# Altium footprint library AMPHENOL_10118194-0001LF.PcbLib: 1 footprints
Each footprint in its own frame and in the unit in brackets; x right, y up, seen from the top. Pads: shape width x height; smd on the part's side, far side on the other; paste and mask are expansions set on the pad; w line width, h text height; cw(c..) or ccw(c..) is an arc to the next point about the centre after c.
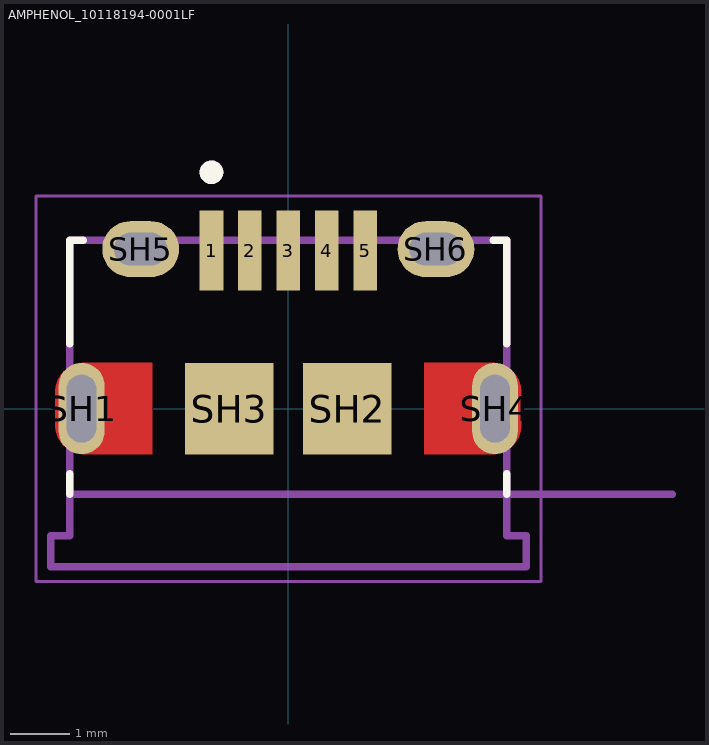
[diagram p0: the footprint, top view; thin cyan lines are the x and y axes]

## AMPHENOL_10118194-0001LF [mm]
height 2.66
pads (11):
  rect 0.4x1.35 smd: 1(-1.3,2.675) 2(-0.65,2.675) 3(0,2.675) 4(0.65,2.675) 5(1.3,2.675)
  oval 0.775x1.55 hole 0.5 slot 1.15 at 90 deg mask+0: SH1(-3.5,0) SH4(3.5,0)
  rect 1.5x1.55 smd: SH2(1,0) SH3(-1,0)
  oval 1.3x0.95 hole 0.55 slot 0.9 at 0 deg: SH5(-2.5,2.7) SH6(2.5,2.7)
Top Layer:
  region: 3.471,0.774 3.497,0.772 3.523,0.769 3.549,0.764 3.574,0.758 3.6,0.751 3.624,0.742 3.648,0.732 3.672,0.721 3.695,0.708 3.717,0.694 3.739,0.68 3.76,0.664 3.78,0.647 3.799,0.629 3.817,0.61 3.834,0.59 3.85,0.569 3.864,0.547 3.878,0.525 3.891,0.502 3.902,0.478 3.912,0.454 3.921,0.43 3.928,0.404 3.934,0.379 3.939,0.353 3.942,0.327 3.944,0.301 3.945,0.275 3.945,-0.275 3.944,-0.301 3.942,-0.327 3.939,-0.353 3.934,-0.379 3.928,-0.404 3.921,-0.43 3.912,-0.454 3.902,-0.478 3.891,-0.502 3.878,-0.525 3.864,-0.547 3.85,-0.569 3.834,-0.59 3.817,-0.61 3.799,-0.629 3.78,-0.647 3.76,-0.664 3.739,-0.68 3.717,-0.694 3.695,-0.708 3.672,-0.721 3.648,-0.732 3.624,-0.742 3.6,-0.751 3.574,-0.758 3.549,-0.764 3.523,-0.769 3.497,-0.772 3.471,-0.774 3.445,-0.775 2.3,-0.775 2.3,0.775 3.445,0.775
  region: -2.3,-0.775 -3.445,-0.775 -3.471,-0.774 -3.497,-0.772 -3.523,-0.769 -3.549,-0.764 -3.574,-0.758 -3.6,-0.751 -3.624,-0.742 -3.648,-0.732 -3.672,-0.721 -3.695,-0.708 -3.717,-0.694 -3.739,-0.68 -3.76,-0.664 -3.78,-0.647 -3.799,-0.629 -3.817,-0.61 -3.834,-0.59 -3.85,-0.569 -3.864,-0.547 -3.878,-0.525 -3.891,-0.502 -3.902,-0.478 -3.912,-0.454 -3.921,-0.43 -3.928,-0.404 -3.934,-0.379 -3.939,-0.353 -3.942,-0.327 -3.944,-0.301 -3.945,-0.275 -3.945,0.275 -3.944,0.301 -3.942,0.327 -3.939,0.353 -3.934,0.379 -3.928,0.404 -3.921,0.43 -3.912,0.454 -3.902,0.478 -3.891,0.502 -3.878,0.525 -3.864,0.547 -3.85,0.569 -3.834,0.59 -3.817,0.61 -3.799,0.629 -3.78,0.647 -3.76,0.664 -3.739,0.68 -3.717,0.694 -3.695,0.708 -3.672,0.721 -3.648,0.732 -3.624,0.742 -3.6,0.751 -3.574,0.758 -3.549,0.764 -3.523,0.769 -3.497,0.772 -3.471,0.774 -3.445,0.775 -2.3,0.775
Top Overlay:
  circle w0.2: c-1.3,4 r0.1
  lines w0.127: -3.7,-1.45 -3.7,-1.1 ; -3.7,1.1 -3.7,2.85 -3.47,2.85 ; 3.47,2.85 3.7,2.85 3.7,1.1 ; 3.7,-1.45 3.7,-1.1
Top Paste:
  region: 3.471,0.774 3.497,0.772 3.523,0.769 3.549,0.764 3.574,0.758 3.6,0.751 3.624,0.742 3.648,0.732 3.672,0.721 3.695,0.708 3.717,0.694 3.739,0.68 3.76,0.664 3.78,0.647 3.799,0.629 3.817,0.61 3.834,0.59 3.85,0.569 3.864,0.547 3.878,0.525 3.891,0.502 3.902,0.478 3.912,0.454 3.921,0.43 3.928,0.404 3.934,0.379 3.939,0.353 3.942,0.327 3.944,0.301 3.945,0.275 3.945,-0.275 3.944,-0.301 3.942,-0.327 3.939,-0.353 3.934,-0.379 3.928,-0.404 3.921,-0.43 3.912,-0.454 3.902,-0.478 3.891,-0.502 3.878,-0.525 3.864,-0.547 3.85,-0.569 3.834,-0.59 3.817,-0.61 3.799,-0.629 3.78,-0.647 3.76,-0.664 3.739,-0.68 3.717,-0.694 3.695,-0.708 3.672,-0.721 3.648,-0.732 3.624,-0.742 3.6,-0.751 3.574,-0.758 3.549,-0.764 3.523,-0.769 3.497,-0.772 3.471,-0.774 3.445,-0.775 2.3,-0.775 2.3,0.775 3.445,0.775
  region: -2.3,-0.775 -3.445,-0.775 -3.471,-0.774 -3.497,-0.772 -3.523,-0.769 -3.549,-0.764 -3.574,-0.758 -3.6,-0.751 -3.624,-0.742 -3.648,-0.732 -3.672,-0.721 -3.695,-0.708 -3.717,-0.694 -3.739,-0.68 -3.76,-0.664 -3.78,-0.647 -3.799,-0.629 -3.817,-0.61 -3.834,-0.59 -3.85,-0.569 -3.864,-0.547 -3.878,-0.525 -3.891,-0.502 -3.902,-0.478 -3.912,-0.454 -3.921,-0.43 -3.928,-0.404 -3.934,-0.379 -3.939,-0.353 -3.942,-0.327 -3.944,-0.301 -3.945,-0.275 -3.945,0.275 -3.944,0.301 -3.942,0.327 -3.939,0.353 -3.934,0.379 -3.928,0.404 -3.921,0.43 -3.912,0.454 -3.902,0.478 -3.891,0.502 -3.878,0.525 -3.864,0.547 -3.85,0.569 -3.834,0.59 -3.817,0.61 -3.799,0.629 -3.78,0.647 -3.76,0.664 -3.739,0.68 -3.717,0.694 -3.695,0.708 -3.672,0.721 -3.648,0.732 -3.624,0.742 -3.6,0.751 -3.574,0.758 -3.549,0.764 -3.523,0.769 -3.497,0.772 -3.471,0.774 -3.445,0.775 -2.3,0.775
Top Solder:
  region: 3.476,0.874 3.508,0.872 3.539,0.868 3.57,0.862 3.6,0.855 3.63,0.846 3.66,0.835 3.689,0.823 3.717,0.81 3.745,0.795 3.772,0.778 3.798,0.76 3.823,0.741 3.846,0.721 3.869,0.699 3.891,0.676 3.911,0.653 3.93,0.628 3.948,0.602 3.965,0.575 3.98,0.547 3.993,0.519 4.005,0.49 4.016,0.46 4.025,0.43 4.032,0.4 4.038,0.369 4.042,0.338 4.044,0.306 4.045,0.275 4.045,-0.275 4.044,-0.306 4.042,-0.338 4.038,-0.369 4.032,-0.4 4.025,-0.43 4.016,-0.46 4.005,-0.49 3.993,-0.519 3.98,-0.547 3.965,-0.575 3.948,-0.602 3.93,-0.628 3.911,-0.653 3.891,-0.676 3.869,-0.699 3.846,-0.721 3.823,-0.741 3.798,-0.76 3.772,-0.778 3.745,-0.795 3.717,-0.81 3.689,-0.823 3.66,-0.835 3.63,-0.846 3.6,-0.855 3.57,-0.862 3.539,-0.868 3.508,-0.872 3.476,-0.874 3.445,-0.875 2.2,-0.875 2.2,0.875 3.445,0.875
  region: -2.2,-0.875 -3.445,-0.875 -3.476,-0.874 -3.508,-0.872 -3.539,-0.868 -3.57,-0.862 -3.6,-0.855 -3.63,-0.846 -3.66,-0.835 -3.689,-0.823 -3.717,-0.81 -3.745,-0.795 -3.772,-0.778 -3.798,-0.76 -3.823,-0.741 -3.846,-0.721 -3.869,-0.699 -3.891,-0.676 -3.911,-0.653 -3.93,-0.628 -3.948,-0.602 -3.965,-0.575 -3.98,-0.547 -3.993,-0.519 -4.005,-0.49 -4.016,-0.46 -4.025,-0.43 -4.032,-0.4 -4.038,-0.369 -4.042,-0.338 -4.044,-0.306 -4.045,-0.275 -4.045,0.275 -4.044,0.306 -4.042,0.338 -4.038,0.369 -4.032,0.4 -4.025,0.43 -4.016,0.46 -4.005,0.49 -3.993,0.519 -3.98,0.547 -3.965,0.575 -3.948,0.602 -3.93,0.628 -3.911,0.653 -3.891,0.676 -3.869,0.699 -3.846,0.721 -3.823,0.741 -3.798,0.76 -3.772,0.778 -3.745,0.795 -3.717,0.81 -3.689,0.823 -3.66,0.835 -3.63,0.846 -3.6,0.855 -3.57,0.862 -3.539,0.868 -3.508,0.872 -3.476,0.874 -3.445,0.875 -2.2,0.875
Bottom Solder:
  drawing of 2 lines, arcs and shapes, not listed
Mechanical 13:
  circle w0.2: c-1.3,4 r0.1
  lines w0.127: 6.5,-1.45 -3.7,-1.45 ; -3.7,-1.45 -3.7,2.85 3.7,2.85 3.7,-2.15 4.025,-2.15 4.025,-2.68 -4.025,-2.68 -4.025,-2.15 -3.7,-2.15 -3.7,-1.45
  text "PCB EDGE" at 4.25,-1.25 h0.81
Mechanical 15:
  lines w0.05: -4.275,-2.93 4.275,-2.93 4.275,3.6 -4.275,3.6 -4.275,-2.93
3D body "step_temp.STEP": height 2.67, standoff -0.6, extent -4.025,-2.68 4.025,2.85